# EAGLE library part CD4532B_NS_16 (library power_module)
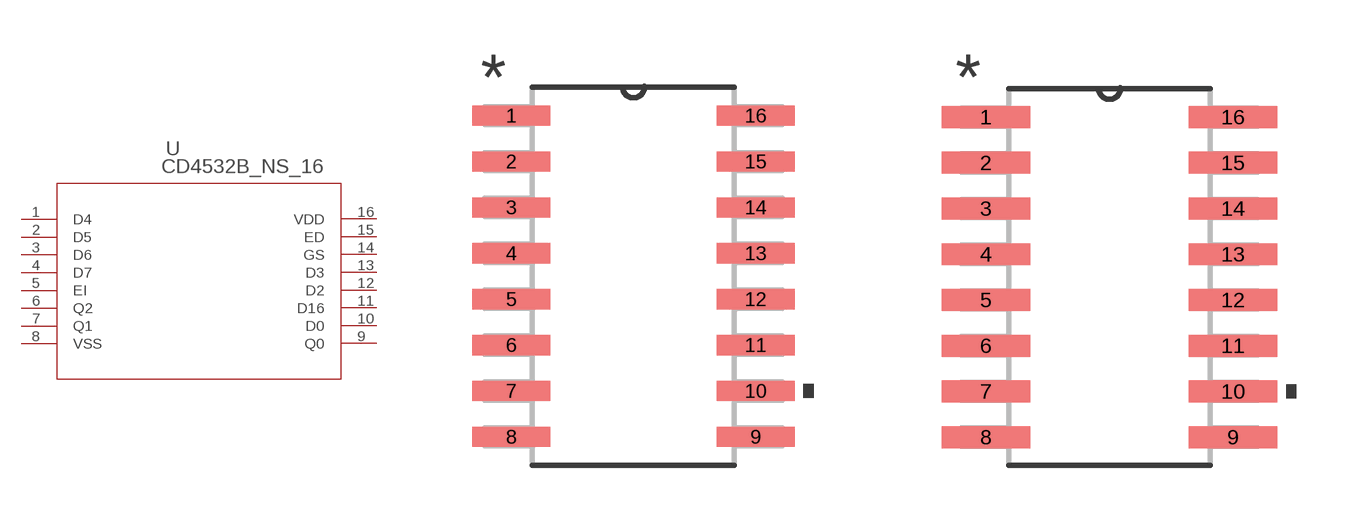
[diagram p12: symbol with the pads of NS16; footprints NS16, NS16-M]

Designator prefix U

## CD4532B_NS_16  [NS16]
1  D4  pas
2  D5  pas
3  D6  pas
4  D7  pas
5  EI  pas
6  Q2  pas
7  Q1  pas
8  VSS  pwr
9  Q0  pas
10  D0  pas
11  D16  pas
12  D2  pas
13  D3  pas
14  GS  pas
15  ED  pas
16  VDD  pwr

## CD4532B_NS_16NS16-M  [NS16-M]
Pads as for NS16

## CD4532B_NS_16NS16-L  [NS16-L]
Pads as for NS16

## Footprint NS16 (pad centres in mm)
smd 2.159 x 0.559: 1 -3.378,4.445; 2 -3.378,3.175; 3 -3.378,1.905; 4 -3.378,0.635; 5 -3.378,-0.635; 6 -3.378,-1.905; 7 -3.378,-3.175; 8 -3.378,-4.445; 9 3.378,-4.445; 10 3.378,-3.175; 11 3.378,-1.905; 12 3.378,-0.635; 13 3.378,0.635; 14 3.378,1.905; 15 3.378,3.175; 16 3.378,4.445

## Footprint NS16-M (pad centres in mm)
smd 2.464 x 0.61: 1 -3.429,4.445; 2 -3.429,3.175; 3 -3.429,1.905; 4 -3.429,0.635; 5 -3.429,-0.635; 6 -3.429,-1.905; 7 -3.429,-3.175; 8 -3.429,-4.445; 9 3.429,-4.445; 10 3.429,-3.175; 11 3.429,-1.905; 12 3.429,-0.635; 13 3.429,0.635; 14 3.429,1.905; 15 3.429,3.175; 16 3.429,4.445

## Footprint NS16-L (pad centres in mm)
smd 1.854 x 0.508: 1 -3.327,4.445; 2 -3.327,3.175; 3 -3.327,1.905; 4 -3.327,0.635; 5 -3.327,-0.635; 6 -3.327,-1.905; 7 -3.327,-3.175; 8 -3.327,-4.445; 9 3.327,-4.445; 10 3.327,-3.175; 11 3.327,-1.905; 12 3.327,-0.635; 13 3.327,0.635; 14 3.327,1.905; 15 3.327,3.175; 16 3.327,4.445